# EAGLE library part 1.8TFT_CHI (library RATT_REV0)
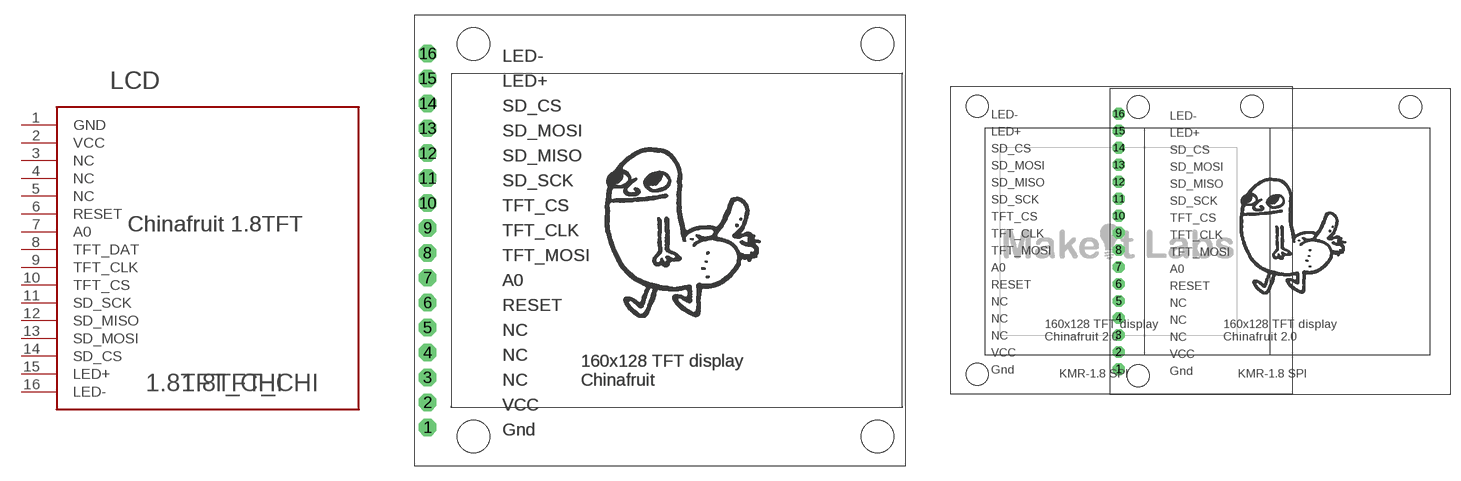
[diagram p4: symbol with the pads of 1.8TFT_CHI; footprints 1.8TFT_CHI, 1.8TFT_CHI_2.0]

Designator prefix LCD

## 1.8TFT_CHI  [1.8TFT_CHI]
1  GND
2  VCC
3  NC
4  NC
5  NC
6  RESET
7  A0
8  TFT_DAT
9  TFT_CLK
10  TFT_CS
11  SD_SCK
12  SD_MISO
13  SD_MOSI
14  SD_CS
15  LED+
16  LED-

## 1.8TFT_CHI2.0  [1.8TFT_CHI_2.0]
Pads as for 1.8TFT_CHI

## Footprint 1.8TFT_CHI (pad centres in mm)
drill 1.016 pad 1.778 octagon: 1 -25.4,-19.05; 2 -25.4,-16.51; 3 -25.4,-13.97; 4 -25.4,-11.43; 5 -25.4,-8.89; 6 -25.4,-6.35; 7 -25.4,-3.81; 8 -25.4,-1.27; 9 -25.4,1.27; 10 -25.4,3.81; 11 -25.4,6.35; 12 -25.4,8.89; 13 -25.4,11.43; 14 -25.4,13.97; 15 -25.4,16.51; 16 -25.4,19.05
hole 3.3 at 20.45,20
hole 3.3 at 20.45,-20
hole 3.3 at -20.7,-20
hole 3.3 at -20.7,20
hole 3.3 at 20.45,20
hole 3.3 at 20.45,-20
hole 3.3 at -20.7,-20
hole 3.3 at -20.7,20

## Footprint 1.8TFT_CHI_2.0 (pad centres in mm)
drill 1.016 pad 1.778 octagon: 1 0,-19.05; 2 0,-16.51; 3 0,-13.97; 4 0,-11.43; 5 0,-8.89; 6 0,-6.35; 7 0,-3.81; 8 0,-1.27; 9 0,1.27; 10 0,3.81; 11 0,6.35; 12 0,8.89; 13 0,11.43; 14 0,13.97; 15 0,16.51; 16 0,19.05
hole 3.3 at 43.561,20.079
hole 3.3 at 2.921,-20.079
hole 3.3 at 2.921,20.079
hole 3.3 at 19.9,20.2
hole 3.3 at -21.1,-19.8
hole 3.3 at -21.1,20.2